# EAGLE library part TPS6217* (library bschulz_Old)
TPS6217x - Step Down Converter (Buck) Characteristics: Vin: 4.75V ~ 28V Vout: 1V ~ 6V (or 3.3V fixed) Output Current: 500 mA Operating Temperature: -40°C to 85°C Digikey: TPS62177 (3.3V Fixed) <https://www.digikey.com/products/en?keywords=TPS62177> TPS62175 (Adjustable) <https://www.digikey.com/products/en/integrated-circuits-ics/pmic-voltage-regulators-dc-dc-switching-regulators/739?k=TPS62175>
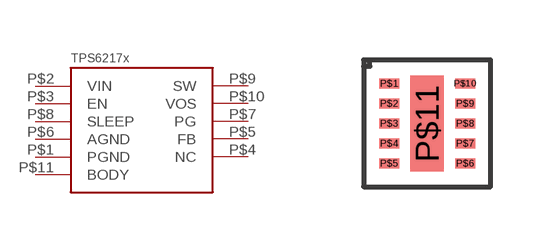
[diagram p17: symbol with the pads of WSON-10; footprint WSON-10]

Designator prefix -

## TPS62175 (DIGIKEY: 296-39451-1-ND; MF: TI; MPN: TPS62175DQCR), TPS62177 (DIGIKEY: 296-41856-1-ND; MF: TI; MPN: TPS62177DQCR)  [WSON-10]
P$1  PGND
P$2  VIN
P$3  EN
P$4  NC
P$5  FB
P$6  AGND
P$7  PG
P$8  SLEEP
P$9  SW
P$10  VOS
P$11  BODY

## Footprint WSON-10 (pad centres in mm)
smd 0.5 x 0.25: P$1 -0.95,1; P$2 -0.95,0.5; P$3 -0.95,0; P$4 -0.95,-0.5; P$5 -0.95,-1; P$6 0.95,-1; P$7 0.95,-0.5; P$8 0.95,0; P$9 0.95,0.5; P$10 0.95,1
smd 0.84 x 2.4: P$11 0,0